# Altium schematic symbol library NanEyeC.SchLib: 1 symbol
Pins are listed as number, name and electrical type; pins without a type are passive.

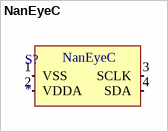
[diagram p0: symbol NanEyeC]

## NanEyeC
designator S?
Camera module NanEyeC from AMS
pins: 1 VSS (power), 2 VDDA (power), 3 SCLK (in), 4 SDA (io)